# EAGLE library part LTC6992CDCB-3TRMPBF (library LTC6992CDCB-3TRMPBF)
Voltage-Controlled Pulse Width Modulator (PWM)
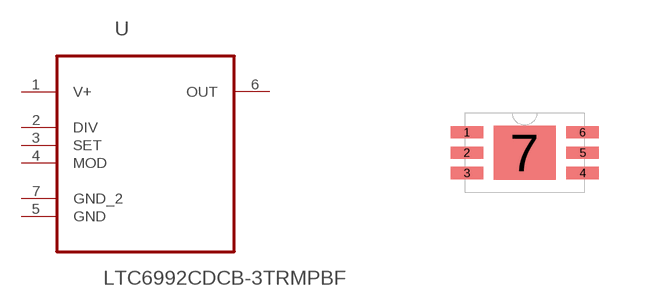
[diagram p0: symbol with the pads of DFN200X300X80-7N; footprint DFN200X300X80-7N]

Designator prefix U

## LTC6992CDCB-3TRMPBF (Description: IC, PWM, VOLT CTRL, TIMERBLOX, 6DFN; No. of Timers:1; Clock External Input:No; Frequency:1MHz; Supply Voltage Range:2.25V to 5.5V; Digital IC Case Style:DFN; No. of Pins:6; Operating Temperature Range:0°C to +70°C; SVHC:No SVHC (19-Dec-2011); Input Voltage:5.5V; Output Current:20mA; Output Voltage:5.15V; Package / Case:DFN; Resonator Case:SMD; Supply Voltage:2.25V to 5.5V; Digi-Key_Part_Number: LTC6992CDCB-3#TRMPBFTR-ND; MF: Analog Devices; MP: LTC6992CDCB-3#TRMPBF; Package: DFN-6 Linear Technology; Purchase-URL: https://pricing.snapeda.com/search/part/LTC6992CDCB-3#TRMPBF/?ref=eda)  [DFN200X300X80-7N]
1  V+  pwr
2  DIV  in
3  SET  in
4  MOD  in
5  GND  pas
6  OUT  out
7  GND_2  pas

## Footprint DFN200X300X80-7N (pad centres in mm)
smd 0.813 x 0.305: 1 -1.448,0.508; 2 -1.448,0; 3 -1.448,-0.508; 4 1.448,-0.508; 5 1.448,0; 6 1.448,0.508
smd 1.549 x 1.346: 7 0,0